# Altium footprint library SOP254P610X216-4N.PcbLib: 1 footprints
Each footprint in its own frame and in the unit in brackets; x right, y up, seen from the top. Pads: shape width x height; smd on the part's side, far side on the other; paste and mask are expansions set on the pad; w line width, h text height; cw(c..) or ccw(c..) is an arc to the next point about the centre after c.
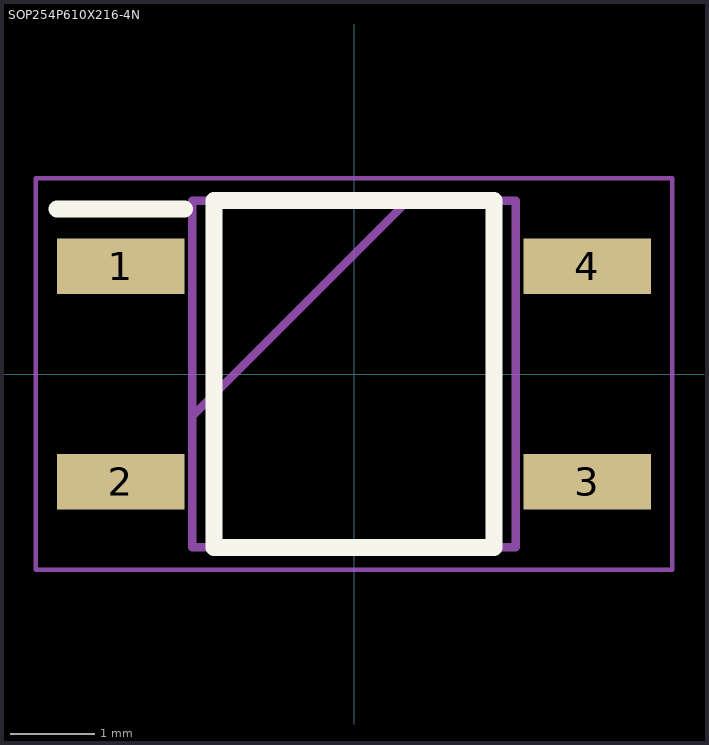
[diagram p0: the footprint, top view; thin cyan lines are the x and y axes]

## SOP254P610X216-4N [mm]
pads (4):
  rect 1.5x0.65 smd: 1(-2.75,1.27) 2(-2.75,-1.27) 3(2.75,-1.27) 4(2.75,1.27)
Top Overlay:
  lines w0.2: -3.5,1.945 -2,1.945 ; -1.65,-2.044 1.65,-2.044 1.65,2.044 -1.65,2.044 -1.65,-2.044
Mechanical 15:
  lines w0.1: -1.905,-0.496 0.635,2.044 ; -1.905,-2.044 1.905,-2.044 1.905,2.044 -1.905,2.044 -1.905,-2.044
Mechanical 20:
  lines w0.05: -3.75,-2.307 3.75,-2.307 3.75,2.307 -3.75,2.307 -3.75,-2.307